# Altium integrated library ad_test2_IntLib.IntLib: 2 symbols
Pins are listed as number, name and electrical type; pins without a type are passive.

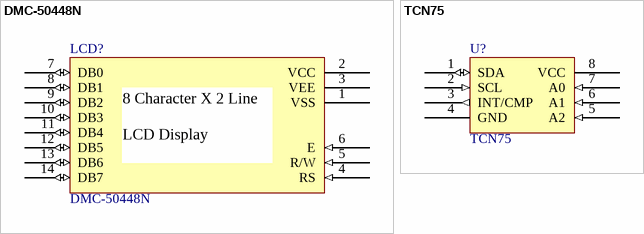
[diagram p0: symbols DMC-50448N to TCN75]

## DMC-50448N
designator LCD?
8 Character X 2 Line / LCD Display
footprint DMC-50448N (LCD,DMC-50448N)
pins: 1 VSS (power), 2 VCC (power), 3 VEE (power), 4 RS (in), 5 R/W (in), 6 E (in), 7 DB0 (io), 8 DB1 (io), 9 DB2 (io), 10 DB3 (io), 11 DB4 (io), 12 DB5 (io), 13 DB6 (io), 14 DB7 (io)
text: 8 Character X 2 Line / LCD Display

## TCN75
designator U?
TCN75数字温度传感器将-40°C到+125°C范围内的温度转换为数字
footprint TCN75-SOIC (TCN75-SOIC, 8-Leads, Body 4.90x3.90mm, Pitch 1.27mm, IPC Low Density)
pins: 1 SDA (io), 2 SCL (in), 3 INT/CMP (out), 4 GND (power), 5 A2 (in), 6 A1 (in), 7 A0 (in), 8 VCC (power)